# Altium footprint library ElementsPCB.PcbLib: 1 footprints
Each footprint in its own frame and in the unit in brackets; x right, y up, seen from the top. Pads: shape width x height; smd on the part's side, far side on the other; paste and mask are expansions set on the pad; w line width, h text height; cw(c..) or ccw(c..) is an arc to the next point about the centre after c.
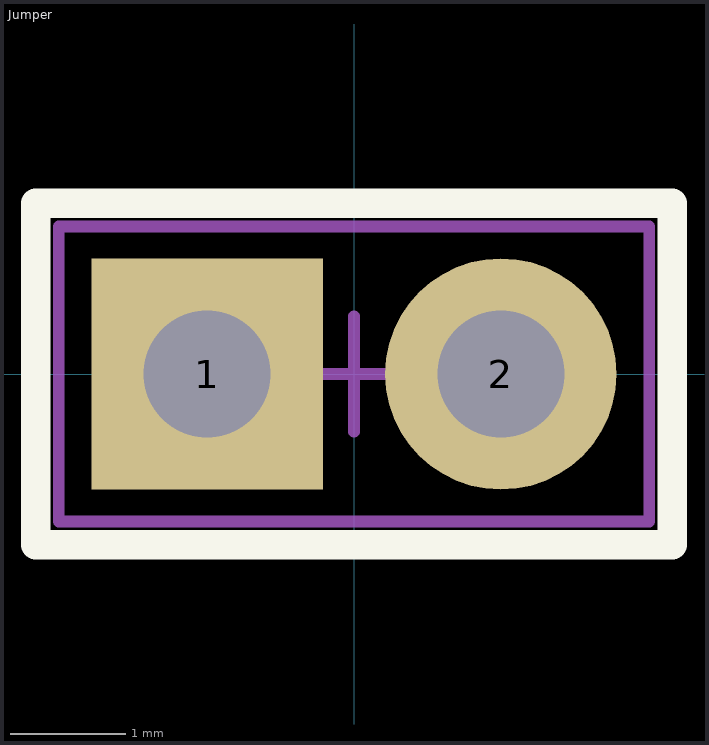
[diagram p0: the footprint, top view; thin cyan lines are the x and y axes]

## Jumper [mm]
height 10
pads (2):
  rect 2x2 hole 1.1: 1(-1.27,0)
  round 2 hole 1.1: 2(1.27,0)
Top Overlay:
  lines w0.254: -2.75,-1.475 -2.75,1.475 2.75,1.475 2.75,-1.475 -2.75,-1.475
Top Assy:
  lines w0.1: -2.55,-1.275 2.55,-1.275 2.55,1.275 -2.55,1.275 -2.55,-1.275
Border:
  lines w0.1: -0.5,0 0.5,0 ; 0,-0.5 0,0.5 ; -2.75,-1.475 2.75,-1.475 2.75,1.475 -2.75,1.475 -2.75,-1.475
3D body "Jumper Closed.stp": height 8.72, standoff -3.05, extent -2.54,-1.272 2.54,1.268